# Altium footprint library Transistor.PcbLib: 6 footprints
Each footprint in its own frame and in the unit in brackets; x right, y up, seen from the top. Pads: shape width x height; smd on the part's side, far side on the other; paste and mask are expansions set on the pad; w line width, h text height; cw(c..) or ccw(c..) is an arc to the next point about the centre after c.
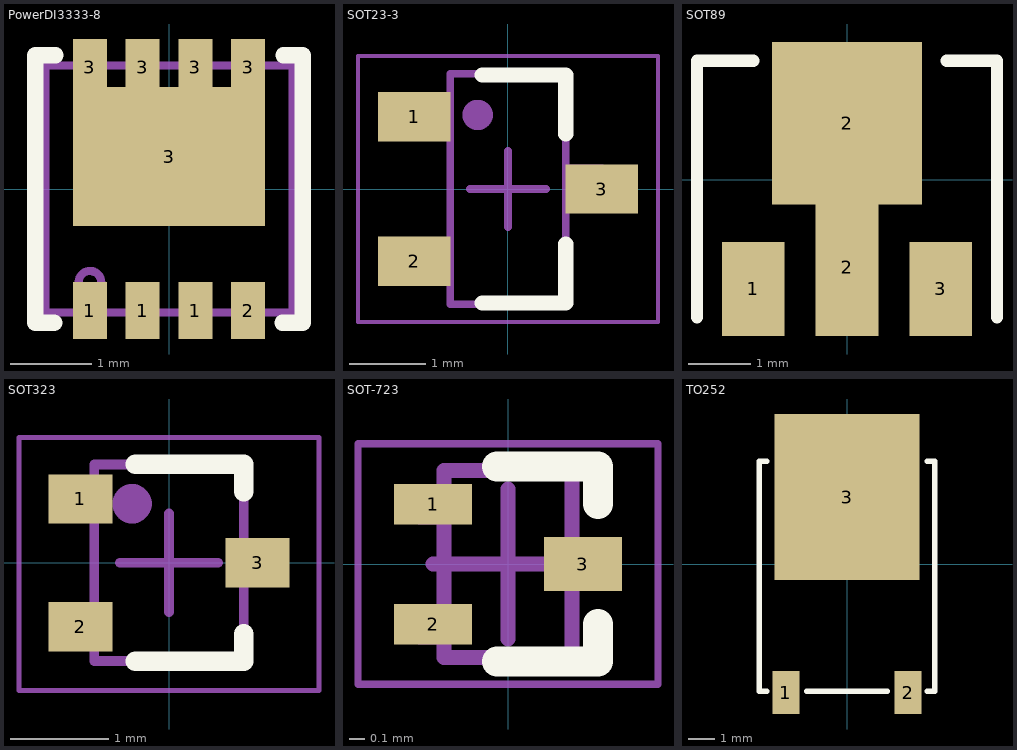
[diagram p0: the footprints below, top view; thin cyan lines are the x and y axes]

## PowerDI3333-8 [mm]
pads (9):
  rect 0.42x0.7 smd: 1(-0.975,-1.5) 1(-0.325,-1.5) 1(0.325,-1.5) 2(0.975,-1.5) 3(-0.975,1.5) 3(-0.325,1.5) 3(0.325,1.5) 3(0.975,1.5)
  rect 2.37x1.71 smd: 3(0,0.4)
Top Overlay:
  lines w0.2: -1.416,-1.65 -1.65,-1.65 -1.65,1.65 -1.4,1.65 ; 1.4,-1.65 1.65,-1.65 1.65,1.65 1.412,1.65
Mechanical 13:
  circle w0.1: c-0.975,-1.15 r0.139
  rectangle: -1.135,-1.65 -0.815,-1.55
  rectangle: -0.485,-1.65 -0.165,-1.55
  rectangle: 0.165,-1.65 0.485,-1.55
  rectangle: 0.815,-1.65 1.135,-1.55
  rectangle: -1.65,-0.1 -1.525,0
  region: 1.65,0 1.525,0 1.525,-0.1 1.65,-0.1
  rectangle: -1.135,1.55 -0.815,1.65
  rectangle: -0.485,1.55 -0.165,1.65
  rectangle: 0.165,1.55 0.485,1.65
  rectangle: 0.815,1.55 1.135,1.65
  lines w0.1: -1.525,-1.525 1.525,-1.525 1.525,1.525 -1.525,1.525 -1.525,-1.525
  text ".Designator" at -2.499,-0.167 h0.5
3D body "PowerDI3333-8_Type-UX.STP": height 0.76, standoff 0.01, extent -1.65,-1.65 1.65,1.65

## SOT23-3 [mm] "SOT23, 3-Leads, Body 2.92x2.51mm, Pitch 0.95mm, IPC Medium Density"
height 1.12
pads (3):
  rect 0.95x0.65 smd: 1(-1.235,0.95) 2(-1.235,-0.95) 3(1.235,0)
Top Overlay:
  lines w0.2: -0.34,-1.5 0.76,-1.5 0.76,-0.725 ; -0.34,1.5 0.76,1.5 0.76,0.725
Mechanical 13:
  circle w0.3: c-0.4,0.975 r0.05
  rectangle: -1.26,0.65 -0.76,1.275
  rectangle: -1.26,-1.275 -0.76,-0.65
  rectangle: 0.76,-0.3 1.26,0.325
  lines w0.1: -0.76,-1.52 0.76,-1.52 0.76,1.52 -0.76,1.52 -0.76,-1.52
  text ".Designator" at -0.217,3.249 h0.65
Mechanical 15:
  lines w0.05: -1.975,-1.75 1.975,-1.75 1.975,1.75 -1.975,1.75 -1.975,-1.75
  lines w0.1: -0.5,0 0.5,0 ; 0,-0.5 0,0.5
3D body "SOT-23.step": height 1.11, standoff 0.01, extent -1.283,-1.5 1.217,1.5

## SOT89 [mm]
pads (4):
  rect 1x1.5 smd: 1(-1.5,-1.75) 3(1.5,-1.75)
  rect 1x2.2 smd: 2(0,-1.4)
  rect 2.4x2.6 smd: 2(0,0.9)
Top Overlay:
  lines w0.2: -2.4,-2.2 -2.4,1.9 -1.5,1.9 ; 1.6,1.9 2.4,1.9 2.4,-2.2
3D body "SOT-89.step": height 1.51, standoff 0.01, extent -2.25,-2.25 2.25,1.75

## SOT323 [mm] "SOT23, 3-Leads, Body 2.92x2.51mm, Pitch 0.95mm, IPC Medium Density"
height 1.12
pads (3):
  rect 0.65x0.5 smd: 1(-0.9,0.65) 2(-0.9,-0.65) 3(0.9,0)
Top Overlay:
  lines w0.2: -0.34,-1 0.76,-1 0.76,-0.725 ; -0.34,1 0.76,1 0.76,0.725
Mechanical 13:
  circle w0.3: c-0.375,0.6 r0.05
  rectangle: -1.05,0.5 -0.76,0.8
  rectangle: -1.05,-0.8 -0.757,-0.5
  rectangle: 0.76,-0.15 1.05,0.15
  lines w0.1: -0.76,-1 0.76,-1 0.76,1 -0.76,1 -0.76,-1
  text ".Designator" at 0.118,1.465 h0.3
Mechanical 15:
  lines w0.05: -1.525,-1.3 1.525,-1.3 1.525,1.275 -1.525,1.275 -1.525,-1.3
  lines w0.1: -0.5,0 0.5,0 ; 0,-0.5 0,0.5
3D body "SOT-323 v0.step": height 0.96, standoff 0.01, extent -1.05,-1 1.05,1

## SOT-723 [mm] "SOT23, 3-Leads, Body 1.20x1.20mm, Pitch 0.40mm, IPC Medium Density"
height 0.55
pads (3):
  rect 0.52x0.27 smd: 1(-0.5,0.4) 2(-0.5,-0.4)
  rect 0.52x0.36 smd: 3(0.5,0)
Top Overlay:
  lines w0.2: -0.075,-0.65 0.425,-0.65 0.6,-0.65 0.6,-0.4 ; -0.075,0.65 0.425,0.65 0.6,0.65 0.6,0.4
Mechanical 13:
  rectangle: 0.425,-0.18 0.6,0.18
  rectangle: -0.6,-0.535 -0.42,-0.265
  rectangle: -0.6,0.265 -0.423,0.535
  lines w0.1: -0.425,-0.625 -0.425,0.625 0.425,0.625 0.425,-0.625 -0.425,-0.625
  text ".Designator" at 0.1,-0.581 h0.2
Mechanical 15:
  lines w0.05: -1,-0.8 -1,0.8 1,0.8 1,-0.8 -1,-0.8
  lines w0.1: -0.5,0 0.5,0 ; 0,-0.5 0,0.5
3D body "SOT-723.step": height 0.55, standoff 0, extent -0.6,-0.6 0.6,0.6

## TO252 [mm]
pads (3):
  rect 1x1.6 smd: 1(-2.28,-4.8) 2(2.28,-4.8)
  rect 5.4x6.2 smd: 3(0,2.5)
Top Overlay:
  lines w0.2: -3.277,-4.75 -3,-4.75 ; -3.277,3.835 -3,3.835 ; -1.5,-4.75 1.5,-4.75 ; 3,-4.75 3.277,-4.75 ; 3,3.835 3.277,3.835
  lines w0.203: -3.277,-4.75 -3.277,3.835 ; 3.277,3.835 3.277,-4.75